# Altium footprint library AUVic_PCB_Library_Regulators.PcbLib: 153 footprints (part 5 of 10)
Each footprint in its own frame and in the unit in brackets; x right, y up, seen from the top. Pads: shape width x height; smd on the part's side, far side on the other; paste and mask are expansions set on the pad; w line width, h text height; cw(c..) or ccw(c..) is an arc to the next point about the centre after c.
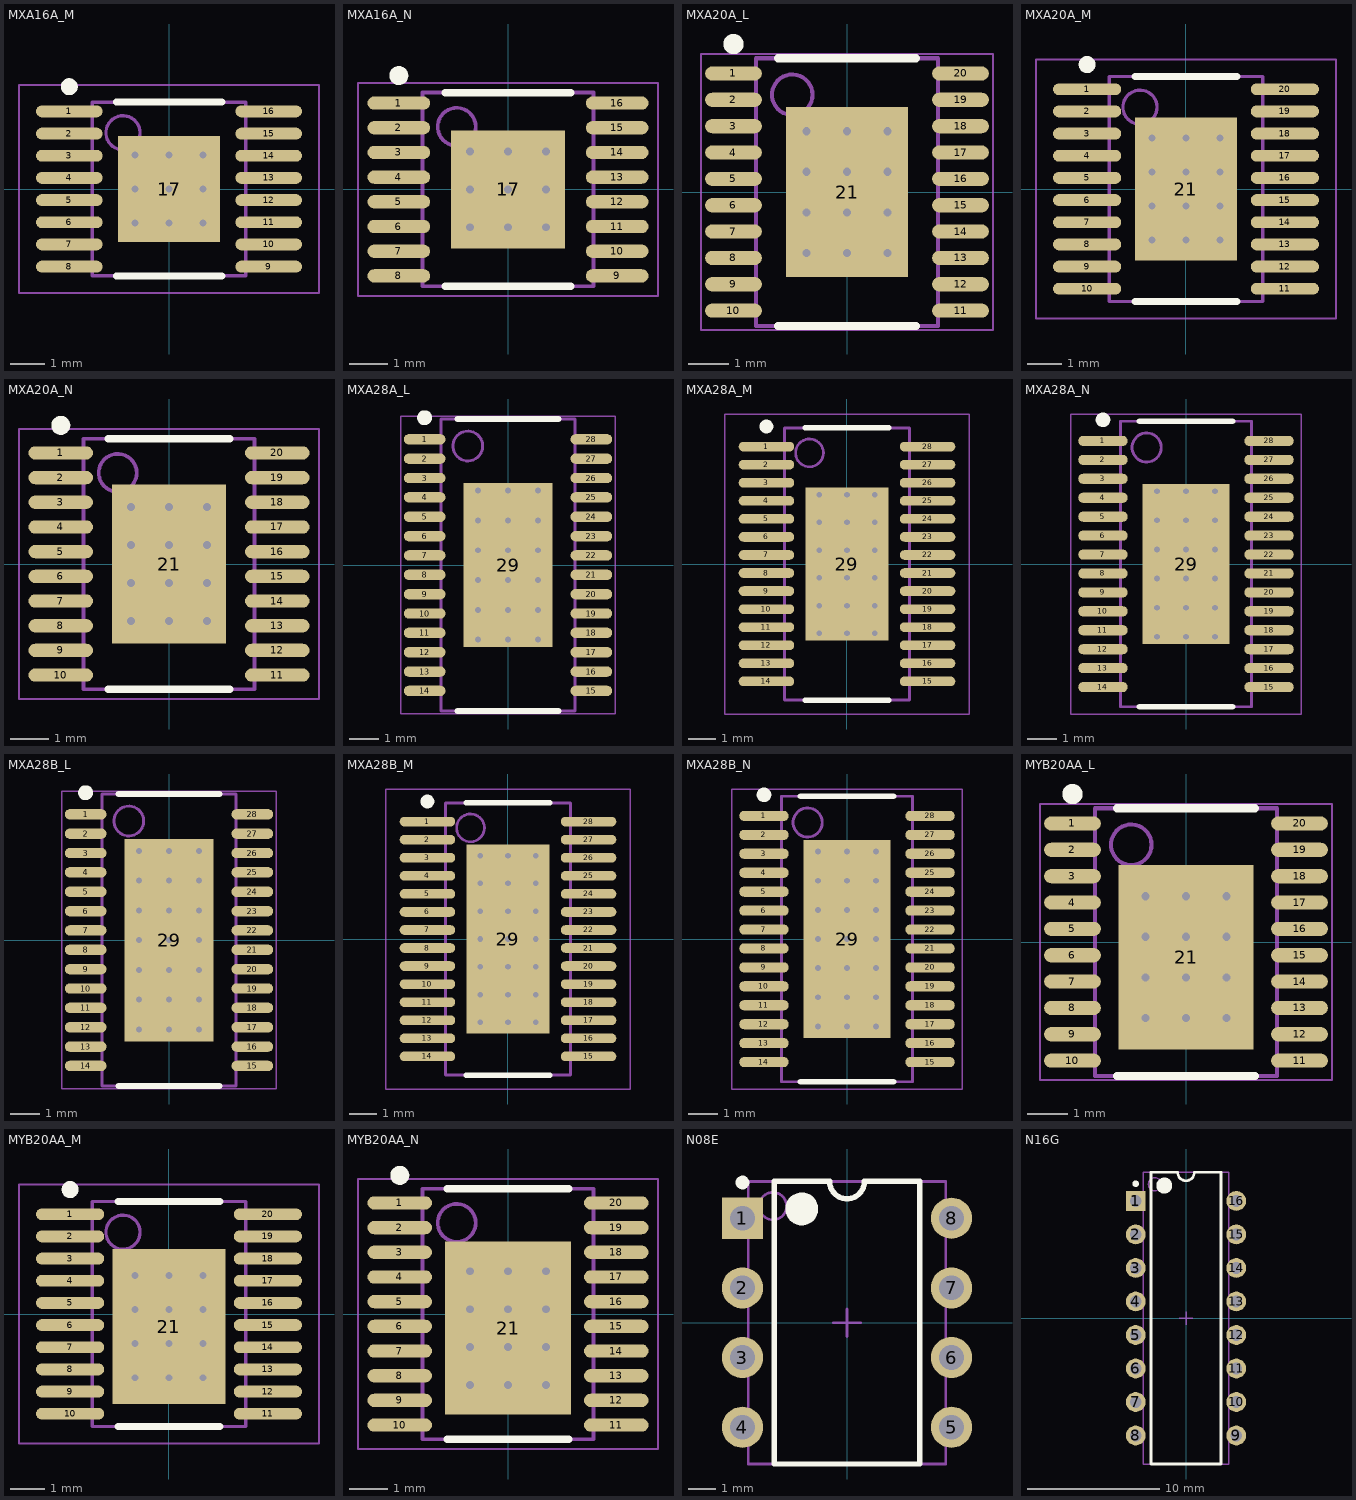
[diagram p4: the footprints below, top view; thin cyan lines are the x and y axes]

## MXA16A_M [mm] "TSOP, 16-Leads, Body 5x4.4mm, Pitch 0.65mm, Thermal Pad, IPC Low Density"
height 1.1
pads (17):
  oval 1.95x0.35 smd: 1(-2.925,2.275) 2(-2.925,1.625) 3(-2.925,0.975) 4(-2.925,0.325) 5(-2.925,-0.325) 6(-2.925,-0.975) 7(-2.925,-1.625) 8(-2.925,-2.275) 9(2.925,-2.275) 10(2.925,-1.625) 11(2.925,-0.975) 12(2.925,-0.325) 13(2.925,0.325) 14(2.925,0.975) 15(2.925,1.625) 16(2.925,2.275)
  rect 3x3.1 smd: 17(0,0)
via 1,1 diameter 0.4 hole 0.2
via 1,-1 diameter 0.4 hole 0.2
via 1,0 diameter 0.4 hole 0.2
via -1,1 diameter 0.4 hole 0.2
via 0,1 diameter 0.4 hole 0.2
via 0,-1 diameter 0.4 hole 0.2
via -1,-1 diameter 0.4 hole 0.2
via 0,0 diameter 0.4 hole 0.2
via -1,0 diameter 0.4 hole 0.2
Top Overlay:
  circle w0.25: c-2.925,3 r0.125
  lines w0.2: -1.55,-2.55 1.55,-2.55 ; -1.55,2.55 1.55,2.55
Body Top:
  circle w0.1: c-1.35,1.65 r0.5
  lines w0.1: -2.25,-2.55 2.25,-2.55 2.25,2.55 -2.25,2.55 -2.25,-2.55
Courtyard Top:
  lines w0.05: -4.4,-3.05 4.4,-3.05 4.4,3.05 -4.4,3.05 -4.4,-3.05
  lines w0.1: -0.5,0 0.5,0 ; 0,-0.5 0,0.5
3D body: height 1.1, standoff 0.05, extent -2.25,-2.55 2.25,2.55

## MXA16A_N [mm] "TSOP, 16-Leads, Body 5x4.4mm, Pitch 0.65mm, Thermal Pad, IPC Medium Density"
height 1.1
pads (17):
  oval 1.65x0.35 smd: 1(-2.875,2.275) 2(-2.875,1.625) 3(-2.875,0.975) 4(-2.875,0.325) 5(-2.875,-0.325) 6(-2.875,-0.975) 7(-2.875,-1.625) 8(-2.875,-2.275) 9(2.875,-2.275) 10(2.875,-1.625) 11(2.875,-0.975) 12(2.875,-0.325) 13(2.875,0.325) 14(2.875,0.975) 15(2.875,1.625) 16(2.875,2.275)
  rect 3x3.1 smd: 17(0,0)
via 1,1 diameter 0.4 hole 0.2
via 1,-1 diameter 0.4 hole 0.2
via 1,0 diameter 0.4 hole 0.2
via -1,1 diameter 0.4 hole 0.2
via 0,1 diameter 0.4 hole 0.2
via 0,-1 diameter 0.4 hole 0.2
via -1,-1 diameter 0.4 hole 0.2
via 0,0 diameter 0.4 hole 0.2
via -1,0 diameter 0.4 hole 0.2
Top Overlay:
  circle w0.25: c-2.875,3 r0.125
  lines w0.2: -1.65,-2.55 1.65,-2.55 ; -1.65,2.55 1.65,2.55
Body Top:
  circle w0.1: c-1.35,1.65 r0.5
  lines w0.1: -2.25,-2.55 2.25,-2.55 2.25,2.55 -2.25,2.55 -2.25,-2.55
Courtyard Top:
  lines w0.05: -3.95,-2.8 3.95,-2.8 3.95,2.8 -3.95,2.8 -3.95,-2.8
  lines w0.1: -0.5,0 0.5,0 ; 0,-0.5 0,0.5
3D body: height 1.1, standoff 0.05, extent -2.25,-2.55 2.25,2.55

## MXA20A_L [mm] "TSOP, 20-Leads, Body 6.5x4.4mm, Pitch 0.65mm, Thermal Pad, IPC High Density"
height 1.1
pads (21):
  oval 1.4x0.35 smd: 1(-2.8,2.925) 2(-2.8,2.275) 3(-2.8,1.625) 4(-2.8,0.975) 5(-2.8,0.325) 6(-2.8,-0.325) 7(-2.8,-0.975) 8(-2.8,-1.625) 9(-2.8,-2.275) 10(-2.8,-2.925) 11(2.8,-2.925) 12(2.8,-2.275) 13(2.8,-1.625) 14(2.8,-0.975) 15(2.8,-0.325) 16(2.8,0.325) 17(2.8,0.975) 18(2.8,1.625) 19(2.8,2.275) 20(2.8,2.925)
  rect 3x4.2 smd: 21(0,0)
via 0,0.5 diameter 0.5 hole 0.2
via 1,0.5 diameter 0.5 hole 0.2
via 0,-0.5 diameter 0.5 hole 0.2
via 1,-0.5 diameter 0.5 hole 0.2
via 0,-1.5 diameter 0.5 hole 0.2
via 1,-1.5 diameter 0.5 hole 0.2
via -1,-1.5 diameter 0.5 hole 0.2
via -1,-0.5 diameter 0.5 hole 0.2
via -1,0.5 diameter 0.5 hole 0.2
via -1,1.5 diameter 0.5 hole 0.2
via 1,1.5 diameter 0.5 hole 0.2
via 0,1.5 diameter 0.5 hole 0.2
Top Overlay:
  circle w0.25: c-2.8,3.65 r0.125
  lines w0.2: -1.7,-3.3 1.7,-3.3 ; -1.7,3.3 1.7,3.3
Body Top:
  circle w0.1: c-1.35,2.4 r0.5
  lines w0.1: -2.25,-3.3 2.25,-3.3 2.25,3.3 -2.25,3.3 -2.25,-3.3
Courtyard Top:
  lines w0.05: -3.6,-3.4 3.6,-3.4 3.6,3.4 -3.6,3.4 -3.6,-3.4
  lines w0.1: -0.5,0 0.5,0 ; 0,-0.5 0,0.5
3D body: height 1.1, standoff 0.05, extent -2.25,-3.3 2.25,3.3

## MXA20A_M [mm] "TSOP, 20-Leads, Body 6.5x4.4mm, Pitch 0.65mm, Thermal Pad, IPC Low Density"
height 1.1
pads (21):
  oval 2x0.35 smd: 1(-2.9,2.925) 2(-2.9,2.275) 3(-2.9,1.625) 4(-2.9,0.975) 5(-2.9,0.325) 6(-2.9,-0.325) 7(-2.9,-0.975) 8(-2.9,-1.625) 9(-2.9,-2.275) 10(-2.9,-2.925) 11(2.9,-2.925) 12(2.9,-2.275) 13(2.9,-1.625) 14(2.9,-0.975) 15(2.9,-0.325) 16(2.9,0.325) 17(2.9,0.975) 18(2.9,1.625) 19(2.9,2.275) 20(2.9,2.925)
  rect 3x4.2 smd: 21(0,0)
via 0,1.5 diameter 0.5 hole 0.2
via 1,1.5 diameter 0.5 hole 0.2
via -1,1.5 diameter 0.5 hole 0.2
via -1,0.5 diameter 0.5 hole 0.2
via -1,-0.5 diameter 0.5 hole 0.2
via -1,-1.5 diameter 0.5 hole 0.2
via 1,-1.5 diameter 0.5 hole 0.2
via 0,-1.5 diameter 0.5 hole 0.2
via 1,-0.5 diameter 0.5 hole 0.2
via 0,-0.5 diameter 0.5 hole 0.2
via 1,0.5 diameter 0.5 hole 0.2
via 0,0.5 diameter 0.5 hole 0.2
Top Overlay:
  circle w0.25: c-2.9,3.65 r0.125
  lines w0.2: -1.5,-3.3 1.5,-3.3 ; -1.5,3.3 1.5,3.3
Body Top:
  circle w0.1: c-1.35,2.4 r0.5
  lines w0.1: -2.25,-3.3 -2.25,3.3 2.25,3.3 2.25,-3.3 -2.25,-3.3
Courtyard Top:
  lines w0.05: -4.4,-3.8 -4.4,3.8 4.4,3.8 4.4,-3.8 -4.4,-3.8
  lines w0.1: -0.5,0 0.5,0 ; 0,-0.5 0,0.5
3D body: height 1.1, standoff 0.05, extent -2.25,-3.3 2.25,3.3

## MXA20A_N [mm] "TSOP, 20-Leads, Body 6.5x4.4mm, Pitch 0.65mm, Thermal Pad, IPC Medium Density"
height 1.1
pads (21):
  oval 1.7x0.35 smd: 1(-2.85,2.925) 2(-2.85,2.275) 3(-2.85,1.625) 4(-2.85,0.975) 5(-2.85,0.325) 6(-2.85,-0.325) 7(-2.85,-0.975) 8(-2.85,-1.625) 9(-2.85,-2.275) 10(-2.85,-2.925) 11(2.85,-2.925) 12(2.85,-2.275) 13(2.85,-1.625) 14(2.85,-0.975) 15(2.85,-0.325) 16(2.85,0.325) 17(2.85,0.975) 18(2.85,1.625) 19(2.85,2.275) 20(2.85,2.925)
  rect 3x4.2 smd: 21(0,0)
via 0,0.5 diameter 0.5 hole 0.2
via 1,0.5 diameter 0.5 hole 0.2
via 0,-0.5 diameter 0.5 hole 0.2
via 1,-0.5 diameter 0.5 hole 0.2
via 0,-1.5 diameter 0.5 hole 0.2
via 1,-1.5 diameter 0.5 hole 0.2
via -1,-1.5 diameter 0.5 hole 0.2
via -1,-0.5 diameter 0.5 hole 0.2
via -1,0.5 diameter 0.5 hole 0.2
via -1,1.5 diameter 0.5 hole 0.2
via 1,1.5 diameter 0.5 hole 0.2
via 0,1.5 diameter 0.5 hole 0.2
Top Overlay:
  circle w0.25: c-2.85,3.65 r0.125
  lines w0.2: -1.6,-3.3 1.6,-3.3 ; -1.6,3.3 1.6,3.3
Body Top:
  circle w0.1: c-1.35,2.4 r0.5
  lines w0.1: -2.25,-3.3 -2.25,3.3 2.25,3.3 2.25,-3.3 -2.25,-3.3
Courtyard Top:
  lines w0.05: -3.95,-3.55 -3.95,3.55 3.95,3.55 3.95,-3.55 -3.95,-3.55
  lines w0.1: -0.5,0 0.5,0 ; 0,-0.5 0,0.5
3D body: height 1.1, standoff 0.05, extent -2.25,-3.3 2.25,3.3

## MXA28A_L [mm] "TSOP, 28-Leads, Body 9.7x4.4mm, Pitch 0.65mm, Thermal Pad, IPC High Density"
height 1.1
pads (29):
  oval 1.4x0.35 smd: 1(-2.8,4.225) 2(-2.8,3.575) 3(-2.8,2.925) 4(-2.8,2.275) 5(-2.8,1.625) 6(-2.8,0.975) 7(-2.8,0.325) 8(-2.8,-0.325) 9(-2.8,-0.975) 10(-2.8,-1.625) 11(-2.8,-2.275) 12(-2.8,-2.925) 13(-2.8,-3.575) 14(-2.8,-4.225) 15(2.8,-4.225) 16(2.8,-3.575) 17(2.8,-2.925) 18(2.8,-2.275) 19(2.8,-1.625) 20(2.8,-0.975) 21(2.8,-0.325) 22(2.8,0.325) 23(2.8,0.975) 24(2.8,1.625) 25(2.8,2.275) 26(2.8,2.925) 27(2.8,3.575) 28(2.8,4.225)
  rect 3x5.5 smd: 29(0,0)
via 0,0.5 diameter 0.4 hole 0.2
via 1,0.5 diameter 0.4 hole 0.2
via 0,-0.5 diameter 0.4 hole 0.2
via 1,-0.5 diameter 0.4 hole 0.2
via 0,-1.5 diameter 0.4 hole 0.2
via 1,-1.5 diameter 0.4 hole 0.2
via 1,1.5 diameter 0.4 hole 0.2
via 0,1.5 diameter 0.4 hole 0.2
via 1,-2.5 diameter 0.4 hole 0.2
via 0,-2.5 diameter 0.4 hole 0.2
via -1,-2.5 diameter 0.4 hole 0.2
via -1,1.5 diameter 0.4 hole 0.2
via -1,-1.5 diameter 0.4 hole 0.2
via -1,-0.5 diameter 0.4 hole 0.2
via -1,0.5 diameter 0.4 hole 0.2
via -1,2.5 diameter 0.4 hole 0.2
via 0,2.5 diameter 0.4 hole 0.2
via 1,2.5 diameter 0.4 hole 0.2
Top Overlay:
  circle w0.25: c-2.8,4.95 r0.125
  lines w0.2: -1.7,-4.9 1.7,-4.9 ; -1.7,4.9 1.7,4.9
Body Top:
  circle w0.1: c-1.35,4 r0.5
  lines w0.1: -2.25,-4.9 2.25,-4.9 2.25,4.9 -2.25,4.9 -2.25,-4.9
Courtyard Top:
  lines w0.05: -3.6,-5 3.6,-5 3.6,5 -3.6,5 -3.6,-5
  lines w0.1: -0.5,0 0.5,0 ; 0,-0.5 0,0.5
3D body: height 1.1, standoff 0.05, extent -2.25,-4.9 2.25,4.9

## MXA28A_M [mm] "TSOP, 28-Leads, Body 9.7x4.4mm, Pitch 0.65mm, Thermal Pad, IPC Low Density"
height 1.1
pads (29):
  oval 2x0.35 smd: 1(-2.9,4.225) 2(-2.9,3.575) 3(-2.9,2.925) 4(-2.9,2.275) 5(-2.9,1.625) 6(-2.9,0.975) 7(-2.9,0.325) 8(-2.9,-0.325) 9(-2.9,-0.975) 10(-2.9,-1.625) 11(-2.9,-2.275) 12(-2.9,-2.925) 13(-2.9,-3.575) 14(-2.9,-4.225) 15(2.9,-4.225) 16(2.9,-3.575) 17(2.9,-2.925) 18(2.9,-2.275) 19(2.9,-1.625) 20(2.9,-0.975) 21(2.9,-0.325) 22(2.9,0.325) 23(2.9,0.975) 24(2.9,1.625) 25(2.9,2.275) 26(2.9,2.925) 27(2.9,3.575) 28(2.9,4.225)
  rect 3x5.5 smd: 29(0,0)
via 0,0.5 diameter 0.4 hole 0.2
via 1,0.5 diameter 0.4 hole 0.2
via 0,-0.5 diameter 0.4 hole 0.2
via 1,-0.5 diameter 0.4 hole 0.2
via 0,-1.5 diameter 0.4 hole 0.2
via 1,-1.5 diameter 0.4 hole 0.2
via 1,1.5 diameter 0.4 hole 0.2
via 0,1.5 diameter 0.4 hole 0.2
via 1,-2.5 diameter 0.4 hole 0.2
via 0,-2.5 diameter 0.4 hole 0.2
via -1,-2.5 diameter 0.4 hole 0.2
via -1,1.5 diameter 0.4 hole 0.2
via -1,-1.5 diameter 0.4 hole 0.2
via -1,-0.5 diameter 0.4 hole 0.2
via -1,0.5 diameter 0.4 hole 0.2
via -1,2.5 diameter 0.4 hole 0.2
via 0,2.5 diameter 0.4 hole 0.2
via 1,2.5 diameter 0.4 hole 0.2
Top Overlay:
  circle w0.25: c-2.9,4.95 r0.125
  lines w0.2: -1.5,-4.9 1.5,-4.9 ; -1.5,4.9 1.5,4.9
Body Top:
  circle w0.1: c-1.35,4 r0.5
  lines w0.1: -2.25,-4.9 -2.25,4.9 2.25,4.9 2.25,-4.9 -2.25,-4.9
Courtyard Top:
  lines w0.05: -4.4,-5.4 -4.4,5.4 4.4,5.4 4.4,-5.4 -4.4,-5.4
  lines w0.1: -0.5,0 0.5,0 ; 0,-0.5 0,0.5
3D body: height 1.1, standoff 0.05, extent -2.25,-4.9 2.25,4.9

## MXA28A_N [mm] "TSOP, 28-Leads, Body 9.7x4.4mm, Pitch 0.65mm, Thermal Pad, IPC Medium Density"
height 1.1
pads (29):
  oval 1.7x0.35 smd: 1(-2.85,4.225) 2(-2.85,3.575) 3(-2.85,2.925) 4(-2.85,2.275) 5(-2.85,1.625) 6(-2.85,0.975) 7(-2.85,0.325) 8(-2.85,-0.325) 9(-2.85,-0.975) 10(-2.85,-1.625) 11(-2.85,-2.275) 12(-2.85,-2.925) 13(-2.85,-3.575) 14(-2.85,-4.225) 15(2.85,-4.225) 16(2.85,-3.575) 17(2.85,-2.925) 18(2.85,-2.275) 19(2.85,-1.625) 20(2.85,-0.975) 21(2.85,-0.325) 22(2.85,0.325) 23(2.85,0.975) 24(2.85,1.625) 25(2.85,2.275) 26(2.85,2.925) 27(2.85,3.575) 28(2.85,4.225)
  rect 3x5.5 smd: 29(0,0)
via 0,0.5 diameter 0.4 hole 0.2
via 1,0.5 diameter 0.4 hole 0.2
via 0,-0.5 diameter 0.4 hole 0.2
via 1,-0.5 diameter 0.4 hole 0.2
via 0,-1.5 diameter 0.4 hole 0.2
via 1,-1.5 diameter 0.4 hole 0.2
via 1,1.5 diameter 0.4 hole 0.2
via 0,1.5 diameter 0.4 hole 0.2
via 1,-2.5 diameter 0.4 hole 0.2
via 0,-2.5 diameter 0.4 hole 0.2
via -1,-2.5 diameter 0.4 hole 0.2
via -1,1.5 diameter 0.4 hole 0.2
via -1,-1.5 diameter 0.4 hole 0.2
via -1,-0.5 diameter 0.4 hole 0.2
via -1,0.5 diameter 0.4 hole 0.2
via -1,2.5 diameter 0.4 hole 0.2
via 0,2.5 diameter 0.4 hole 0.2
via 1,2.5 diameter 0.4 hole 0.2
Top Overlay:
  circle w0.25: c-2.85,4.95 r0.125
  lines w0.2: -1.6,-4.9 1.6,-4.9 ; -1.6,4.9 1.6,4.9
Body Top:
  circle w0.1: c-1.35,4 r0.5
  lines w0.1: -2.25,-4.9 2.25,-4.9 2.25,4.9 -2.25,4.9 -2.25,-4.9
Courtyard Top:
  lines w0.05: -3.95,-5.15 3.95,-5.15 3.95,5.15 -3.95,5.15 -3.95,-5.15
  lines w0.1: -0.5,0 0.5,0 ; 0,-0.5 0,0.5
3D body: height 1.1, standoff 0.05, extent -2.25,-4.9 2.25,4.9

## MXA28B_L [mm] "TSOP, 28-Leads, Body 9.7x4.4mm, Pitch 0.65mm, Thermal Pad, IPC High Density"
height 1.1
pads (29):
  oval 1.4x0.35 smd: 1(-2.8,4.225) 2(-2.8,3.575) 3(-2.8,2.925) 4(-2.8,2.275) 5(-2.8,1.625) 6(-2.8,0.975) 7(-2.8,0.325) 8(-2.8,-0.325) 9(-2.8,-0.975) 10(-2.8,-1.625) 11(-2.8,-2.275) 12(-2.8,-2.925) 13(-2.8,-3.575) 14(-2.8,-4.225) 15(2.8,-4.225) 16(2.8,-3.575) 17(2.8,-2.925) 18(2.8,-2.275) 19(2.8,-1.625) 20(2.8,-0.975) 21(2.8,-0.325) 22(2.8,0.325) 23(2.8,0.975) 24(2.8,1.625) 25(2.8,2.275) 26(2.8,2.925) 27(2.8,3.575) 28(2.8,4.225)
  rect 3x6.8 smd: 29(0,0)
via 1,3 diameter 0.4 hole 0.2
via 0,3 diameter 0.4 hole 0.2
via -1,3 diameter 0.4 hole 0.2
via 0,0 diameter 0.4 hole 0.2
via 1,0 diameter 0.4 hole 0.2
via 0,-1 diameter 0.4 hole 0.2
via 1,-1 diameter 0.4 hole 0.2
via 0,-2 diameter 0.4 hole 0.2
via 1,-2 diameter 0.4 hole 0.2
via 1,1 diameter 0.4 hole 0.2
via 0,1 diameter 0.4 hole 0.2
via 1,-3 diameter 0.4 hole 0.2
via 0,-3 diameter 0.4 hole 0.2
via -1,-3 diameter 0.4 hole 0.2
via -1,1 diameter 0.4 hole 0.2
via -1,-2 diameter 0.4 hole 0.2
via -1,-1 diameter 0.4 hole 0.2
via -1,0 diameter 0.4 hole 0.2
via -1,2 diameter 0.4 hole 0.2
via 0,2 diameter 0.4 hole 0.2
via 1,2 diameter 0.4 hole 0.2
Top Overlay:
  circle w0.25: c-2.8,4.95 r0.125
  lines w0.2: -1.7,-4.9 1.7,-4.9 ; -1.7,4.9 1.7,4.9
Body Top:
  circle w0.1: c-1.35,4 r0.5
  lines w0.1: -2.25,-4.9 -2.25,4.9 2.25,4.9 2.25,-4.9 -2.25,-4.9
Courtyard Top:
  lines w0.05: -3.6,-5 -3.6,5 3.6,5 3.6,-5 -3.6,-5
  lines w0.1: -0.5,0 0.5,0 ; 0,-0.5 0,0.5
3D body: height 1.1, standoff 0.05, extent -2.25,-4.9 2.25,4.9

## MXA28B_M [mm] "TSOP, 28-Leads, Body 9.7x4.4mm, Pitch 0.65mm, Thermal Pad, IPC Low Density"
height 1.1
pads (29):
  oval 2x0.35 smd: 1(-2.9,4.225) 2(-2.9,3.575) 3(-2.9,2.925) 4(-2.9,2.275) 5(-2.9,1.625) 6(-2.9,0.975) 7(-2.9,0.325) 8(-2.9,-0.325) 9(-2.9,-0.975) 10(-2.9,-1.625) 11(-2.9,-2.275) 12(-2.9,-2.925) 13(-2.9,-3.575) 14(-2.9,-4.225) 15(2.9,-4.225) 16(2.9,-3.575) 17(2.9,-2.925) 18(2.9,-2.275) 19(2.9,-1.625) 20(2.9,-0.975) 21(2.9,-0.325) 22(2.9,0.325) 23(2.9,0.975) 24(2.9,1.625) 25(2.9,2.275) 26(2.9,2.925) 27(2.9,3.575) 28(2.9,4.225)
  rect 3x6.8 smd: 29(0,0)
via 1,3 diameter 0.4 hole 0.2
via 0,3 diameter 0.4 hole 0.2
via -1,3 diameter 0.4 hole 0.2
via 0,0 diameter 0.4 hole 0.2
via 1,0 diameter 0.4 hole 0.2
via 0,-1 diameter 0.4 hole 0.2
via 1,-1 diameter 0.4 hole 0.2
via 0,-2 diameter 0.4 hole 0.2
via 1,-2 diameter 0.4 hole 0.2
via 1,1 diameter 0.4 hole 0.2
via 0,1 diameter 0.4 hole 0.2
via 1,-3 diameter 0.4 hole 0.2
via 0,-3 diameter 0.4 hole 0.2
via -1,-3 diameter 0.4 hole 0.2
via -1,1 diameter 0.4 hole 0.2
via -1,-2 diameter 0.4 hole 0.2
via -1,-1 diameter 0.4 hole 0.2
via -1,0 diameter 0.4 hole 0.2
via -1,2 diameter 0.4 hole 0.2
via 0,2 diameter 0.4 hole 0.2
via 1,2 diameter 0.4 hole 0.2
Top Overlay:
  circle w0.25: c-2.9,4.95 r0.125
  lines w0.2: -1.5,-4.9 1.5,-4.9 ; -1.5,4.9 1.5,4.9
Body Top:
  circle w0.1: c-1.35,4 r0.5
  lines w0.1: -2.25,-4.9 -2.25,4.9 2.25,4.9 2.25,-4.9 -2.25,-4.9
Courtyard Top:
  lines w0.05: -4.4,-5.4 -4.4,5.4 4.4,5.4 4.4,-5.4 -4.4,-5.4
  lines w0.1: -0.5,0 0.5,0 ; 0,-0.5 0,0.5
3D body: height 1.1, standoff 0.05, extent -2.25,-4.9 2.25,4.9

## MXA28B_N [mm] "TSOP, 28-Leads, Body 9.7x4.4mm, Pitch 0.65mm, Thermal Pad, IPC Medium Density"
height 1.1
pads (29):
  oval 1.7x0.35 smd: 1(-2.85,4.225) 2(-2.85,3.575) 3(-2.85,2.925) 4(-2.85,2.275) 5(-2.85,1.625) 6(-2.85,0.975) 7(-2.85,0.325) 8(-2.85,-0.325) 9(-2.85,-0.975) 10(-2.85,-1.625) 11(-2.85,-2.275) 12(-2.85,-2.925) 13(-2.85,-3.575) 14(-2.85,-4.225) 15(2.85,-4.225) 16(2.85,-3.575) 17(2.85,-2.925) 18(2.85,-2.275) 19(2.85,-1.625) 20(2.85,-0.975) 21(2.85,-0.325) 22(2.85,0.325) 23(2.85,0.975) 24(2.85,1.625) 25(2.85,2.275) 26(2.85,2.925) 27(2.85,3.575) 28(2.85,4.225)
  rect 3x6.8 smd: 29(0,0)
via 1,2 diameter 0.4 hole 0.2
via 0,2 diameter 0.4 hole 0.2
via -1,2 diameter 0.4 hole 0.2
via -1,0 diameter 0.4 hole 0.2
via -1,-1 diameter 0.4 hole 0.2
via -1,-2 diameter 0.4 hole 0.2
via -1,1 diameter 0.4 hole 0.2
via -1,-3 diameter 0.4 hole 0.2
via 0,-3 diameter 0.4 hole 0.2
via 1,-3 diameter 0.4 hole 0.2
via 0,1 diameter 0.4 hole 0.2
via 1,1 diameter 0.4 hole 0.2
via 1,-2 diameter 0.4 hole 0.2
via 0,-2 diameter 0.4 hole 0.2
via 1,-1 diameter 0.4 hole 0.2
via 0,-1 diameter 0.4 hole 0.2
via 1,0 diameter 0.4 hole 0.2
via 0,0 diameter 0.4 hole 0.2
via -1,3 diameter 0.4 hole 0.2
via 0,3 diameter 0.4 hole 0.2
via 1,3 diameter 0.4 hole 0.2
Top Overlay:
  circle w0.25: c-2.85,4.95 r0.125
  lines w0.2: -1.6,-4.9 1.6,-4.9 ; -1.6,4.9 1.6,4.9
Body Top:
  circle w0.1: c-1.35,4 r0.5
  lines w0.1: -2.25,-4.9 2.25,-4.9 2.25,4.9 -2.25,4.9 -2.25,-4.9
Courtyard Top:
  lines w0.05: -3.95,-5.15 3.95,-5.15 3.95,5.15 -3.95,5.15 -3.95,-5.15
  lines w0.1: -0.5,0 0.5,0 ; 0,-0.5 0,0.5
3D body: height 1.1, standoff 0.05, extent -2.25,-4.9 2.25,4.9

## MYB20AA_L [mm] "TSOP, 20-Leads, Body 6.5x4.4mm, Pitch 0.65mm, Thermal Pad, IPC High Density"
height 1.1
pads (21):
  oval 1.4x0.35 smd: 1(-2.8,2.925) 2(-2.8,2.275) 3(-2.8,1.625) 4(-2.8,0.975) 5(-2.8,0.325) 6(-2.8,-0.325) 7(-2.8,-0.975) 8(-2.8,-1.625) 9(-2.8,-2.275) 10(-2.8,-2.925) 11(2.8,-2.925) 12(2.8,-2.275) 13(2.8,-1.625) 14(2.8,-0.975) 15(2.8,-0.325) 16(2.8,0.325) 17(2.8,0.975) 18(2.8,1.625) 19(2.8,2.275) 20(2.8,2.925)
  rect 3.32x4.55 smd: 21(0,-0.37)
via 0,0.13 diameter 0.5 hole 0.2
via 1,0.13 diameter 0.5 hole 0.2
via 0,-0.87 diameter 0.5 hole 0.2
via 1,-0.87 diameter 0.5 hole 0.2
via 0,-1.87 diameter 0.5 hole 0.2
via 1,-1.87 diameter 0.5 hole 0.2
via -1,-1.87 diameter 0.5 hole 0.2
via -1,-0.87 diameter 0.5 hole 0.2
via -1,0.13 diameter 0.5 hole 0.2
via -1,1.13 diameter 0.5 hole 0.2
via 1,1.13 diameter 0.5 hole 0.2
via 0,1.13 diameter 0.5 hole 0.2
Top Overlay:
  circle w0.25: c-2.8,3.65 r0.125
  lines w0.2: -1.7,-3.3 1.7,-3.3 ; -1.7,3.3 1.7,3.3
Body Top:
  circle w0.1: c-1.35,2.4 r0.5
  lines w0.1: -2.25,-3.3 2.25,-3.3 2.25,3.3 -2.25,3.3 -2.25,-3.3
Courtyard Top:
  lines w0.05: -3.6,-3.4 3.6,-3.4 3.6,3.4 -3.6,3.4 -3.6,-3.4
  lines w0.1: -0.5,0 0.5,0 ; 0,-0.5 0,0.5
3D body: height 1.1, standoff 0.05, extent -2.25,-3.3 2.25,3.3

## MYB20AA_M [mm] "TSOP, 20-Leads, Body 6.5x4.4mm, Pitch 0.65mm, Thermal Pad, IPC Low Density"
height 1.1
pads (21):
  oval 2x0.35 smd: 1(-2.9,2.925) 2(-2.9,2.275) 3(-2.9,1.625) 4(-2.9,0.975) 5(-2.9,0.325) 6(-2.9,-0.325) 7(-2.9,-0.975) 8(-2.9,-1.625) 9(-2.9,-2.275) 10(-2.9,-2.925) 11(2.9,-2.925) 12(2.9,-2.275) 13(2.9,-1.625) 14(2.9,-0.975) 15(2.9,-0.325) 16(2.9,0.325) 17(2.9,0.975) 18(2.9,1.625) 19(2.9,2.275) 20(2.9,2.925)
  rect 3.32x4.55 smd: 21(0,-0.37)
via 0,1.13 diameter 0.5 hole 0.2
via 1,1.13 diameter 0.5 hole 0.2
via -1,1.13 diameter 0.5 hole 0.2
via -1,0.13 diameter 0.5 hole 0.2
via -1,-0.87 diameter 0.5 hole 0.2
via -1,-1.87 diameter 0.5 hole 0.2
via 1,-1.87 diameter 0.5 hole 0.2
via 0,-1.87 diameter 0.5 hole 0.2
via 1,-0.87 diameter 0.5 hole 0.2
via 0,-0.87 diameter 0.5 hole 0.2
via 1,0.13 diameter 0.5 hole 0.2
via 0,0.13 diameter 0.5 hole 0.2
Top Overlay:
  circle w0.25: c-2.9,3.65 r0.125
  lines w0.2: -1.5,-3.3 1.5,-3.3 ; -1.5,3.3 1.5,3.3
Body Top:
  circle w0.1: c-1.35,2.4 r0.5
  lines w0.1: -2.25,-3.3 -2.25,3.3 2.25,3.3 2.25,-3.3 -2.25,-3.3
Courtyard Top:
  lines w0.05: -4.4,-3.8 -4.4,3.8 4.4,3.8 4.4,-3.8 -4.4,-3.8
  lines w0.1: -0.5,0 0.5,0 ; 0,-0.5 0,0.5
3D body: height 1.1, standoff 0.05, extent -2.25,-3.3 2.25,3.3

## MYB20AA_N [mm] "TSOP, 20-Leads, Body 6.5x4.4mm, Pitch 0.65mm, Thermal Pad, IPC Medium Density"
height 1.1
pads (21):
  oval 1.7x0.35 smd: 1(-2.85,2.925) 2(-2.85,2.275) 3(-2.85,1.625) 4(-2.85,0.975) 5(-2.85,0.325) 6(-2.85,-0.325) 7(-2.85,-0.975) 8(-2.85,-1.625) 9(-2.85,-2.275) 10(-2.85,-2.925) 11(2.85,-2.925) 12(2.85,-2.275) 13(2.85,-1.625) 14(2.85,-0.975) 15(2.85,-0.325) 16(2.85,0.325) 17(2.85,0.975) 18(2.85,1.625) 19(2.85,2.275) 20(2.85,2.925)
  rect 3.32x4.55 smd: 21(0,-0.37)
via 0,0.13 diameter 0.5 hole 0.2
via 1,0.13 diameter 0.5 hole 0.2
via 0,-0.87 diameter 0.5 hole 0.2
via 1,-0.87 diameter 0.5 hole 0.2
via 0,-1.87 diameter 0.5 hole 0.2
via 1,-1.87 diameter 0.5 hole 0.2
via -1,-1.87 diameter 0.5 hole 0.2
via -1,-0.87 diameter 0.5 hole 0.2
via -1,0.13 diameter 0.5 hole 0.2
via -1,1.13 diameter 0.5 hole 0.2
via 1,1.13 diameter 0.5 hole 0.2
via 0,1.13 diameter 0.5 hole 0.2
Top Overlay:
  circle w0.25: c-2.85,3.65 r0.125
  lines w0.2: -1.6,-3.3 1.6,-3.3 ; -1.6,3.3 1.6,3.3
Body Top:
  circle w0.1: c-1.35,2.4 r0.5
  lines w0.1: -2.25,-3.3 2.25,-3.3 2.25,3.3 -2.25,3.3 -2.25,-3.3
Courtyard Top:
  lines w0.05: -3.95,-3.55 3.95,-3.55 3.95,3.55 -3.95,3.55 -3.95,-3.55
  lines w0.1: -0.5,0 0.5,0 ; 0,-0.5 0,0.5
3D body: height 1.1, standoff 0.05, extent -2.25,-3.3 2.25,3.3

## N08E [mm] "DIP, 8-Pin, Row Spacing 7.62 mm, Pitch 2.54 mm"
height 5.34
pads (8):
  rect 1.5x1.5 hole 0.9: 1(-3.81,3.81)
  round 1.5 hole 0.9: 2(-3.81,1.27) 3(-3.81,-1.27) 4(-3.81,-3.81) 5(3.81,-3.81) 6(3.81,-1.27) 7(3.81,1.27) 8(3.81,3.81)
Top Overlay:
  circle w0.25: c-3.81,5.11 r0.125
  circle w0.6: c-1.65,4.15 r0.3
  lines w0.2: -2.65,-5.15 -2.65,5.15 -0.635,5.15 ccw(c0,5.15) 0.635,5.15 2.65,5.15 2.65,-5.15 -2.65,-5.15
Body Top:
  circle w0.1: c-2.7,4.25 r0.5
  lines w0.1: -3.6,-5.15 -3.6,5.15 3.6,5.15 3.6,-5.15 -3.6,-5.15
Courtyard Top:
  lines w0.1: -0.5,0 0.5,0 ; 0,-0.5 0,0.5
3D body: height 5.34, standoff 0, extent -3.6,-5.15 3.6,5.15
3D body: height 10, standoff 5.34, extent -3.65,-5.2 3.65,5.2

## N16G [mm] "DIP, 16-Pin, Row Spacing 7.62 mm, Pitch 2.54 mm"
height 5.08
pads (16):
  rect 1.5x1.5 hole 0.9: 1(-3.81,8.89)
  round 1.5 hole 0.9: 2(-3.81,6.35) 3(-3.81,3.81) 4(-3.81,1.27) 5(-3.81,-1.27) 6(-3.81,-3.81) 7(-3.81,-6.35) 8(-3.81,-8.89) 9(3.81,-8.89) 10(3.81,-6.35) 11(3.81,-3.81) 12(3.81,-1.27) 13(3.81,1.27) 14(3.81,3.81) 15(3.81,6.35) 16(3.81,8.89)
Top Overlay:
  circle w0.25: c-3.81,10.19 r0.125
  circle w0.6: c-1.65,10.05 r0.3
  lines w0.2: -2.65,-11.05 -2.65,11.05 -0.635,11.05 ccw(c0,11.05) 0.635,11.05 2.65,11.05 2.65,-11.05 -2.65,-11.05
Body Top:
  circle w0.1: c-2.35,10.15 r0.5
  lines w0.1: -3.25,-11.05 -3.25,11.05 3.25,11.05 3.25,-11.05 -3.25,-11.05
Courtyard Top:
  lines w0.1: -0.5,0 0.5,0 ; 0,-0.5 0,0.5
3D body: height 5.08, standoff 0, extent -3.25,-11.05 3.25,11.05